# Altium schematic symbol library BoxHeader.SchLib: 163 symbols (part 2 of 2)
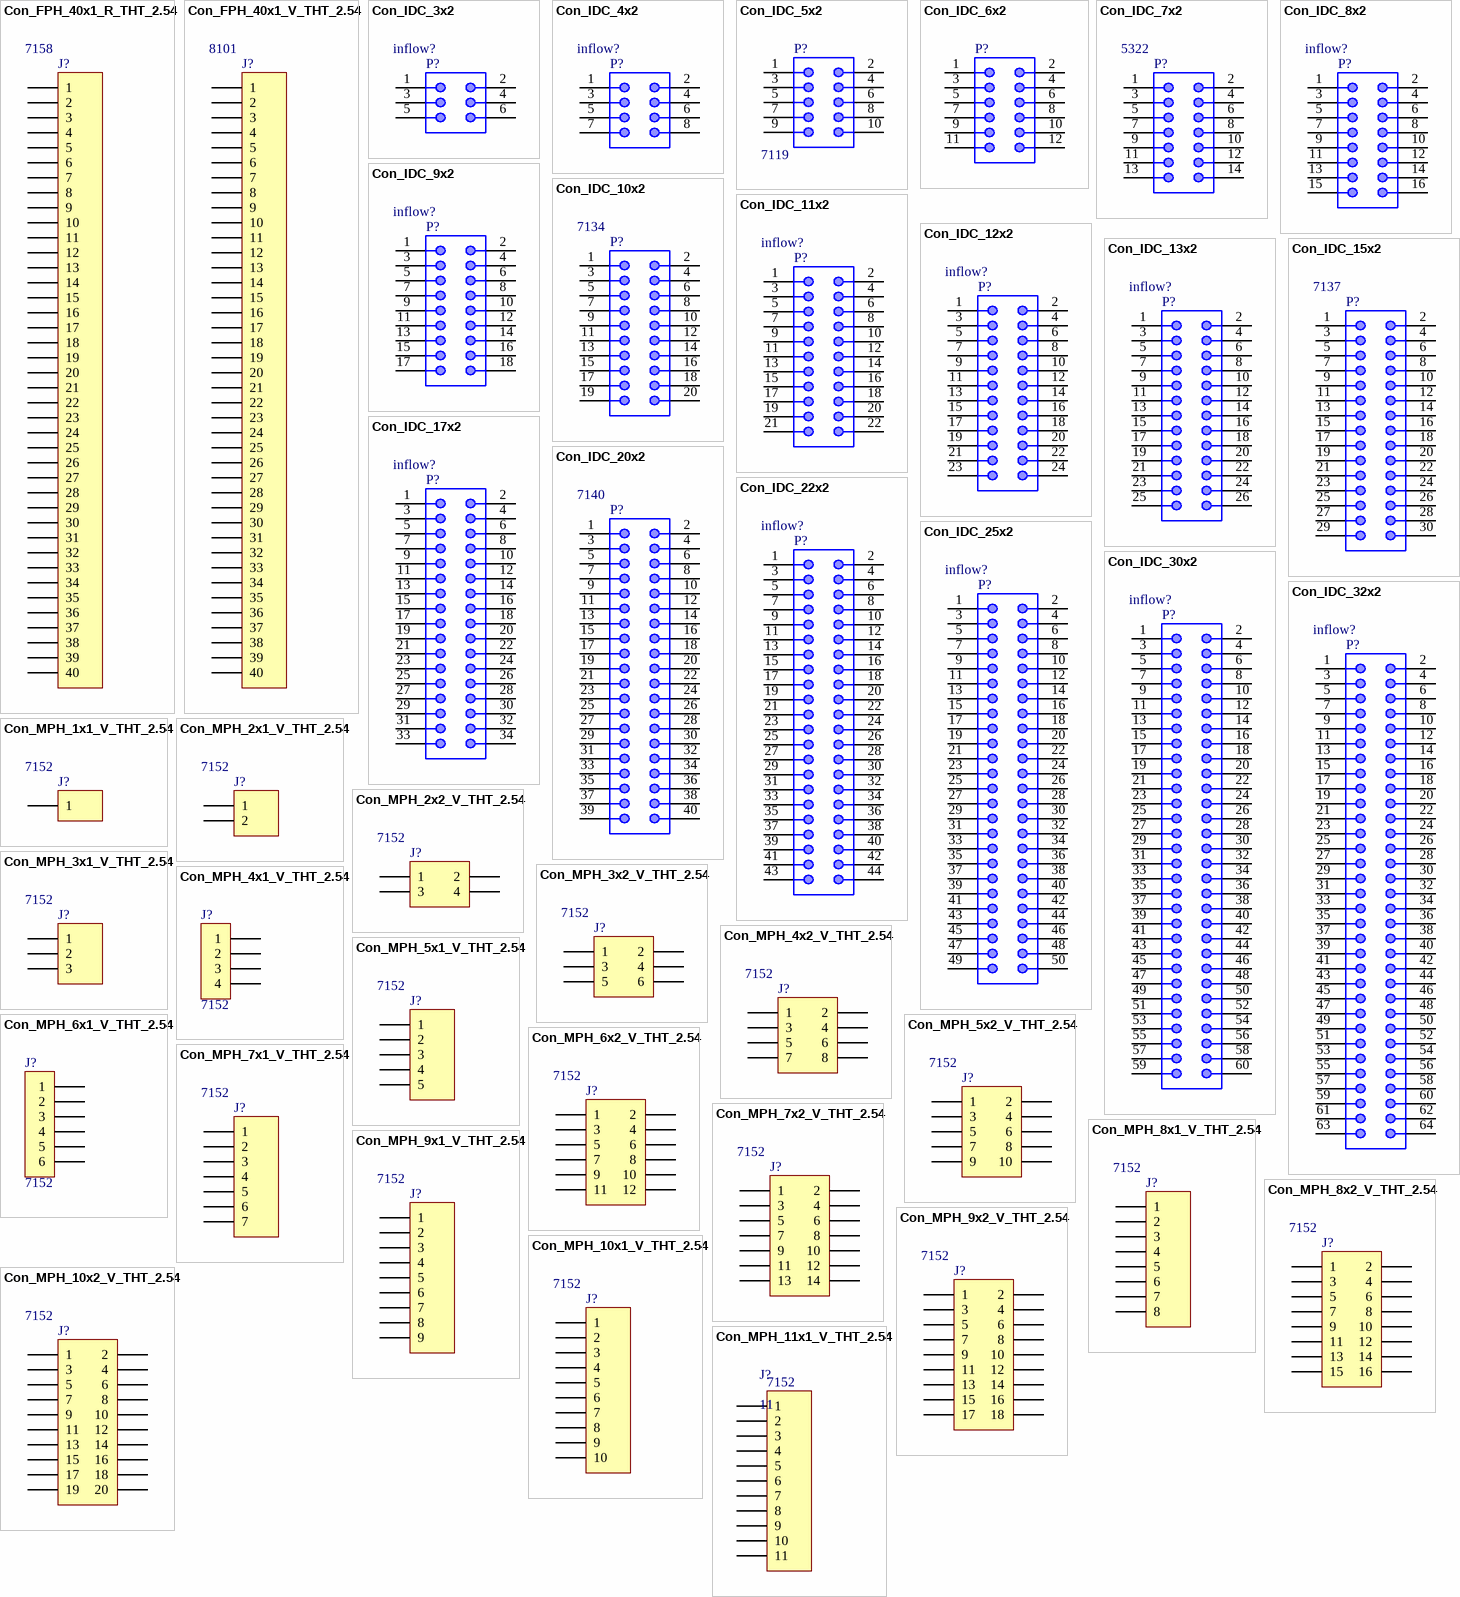
[diagram p6: symbols Con_FPH_40x1_R_THT_2.54 to Con_MPH_11x1_V_THT_2.54]

## Con_IDC_4x2
designator P?, comment Inflow: inflow?  (hidden comment: 4x2)
Male Box Header, 8 pins; Rating: Rating?; Validation: NT; Value: 4x2; Package: Package?; Type: Type?
footprint BOX-HDR-4X2-2.54MM-S (8 pins, straight, gold plating)
footprint BOX-HDR-SMD-4X2-2.54MM-S (8 pins, SMT, straight, gold plating)
footprint BOX-HDR-4X2-2.54MM-RA (8 pins, right angled, gold plating)
pins: 1, 2, 3, 4, 5, 6, 7, 8

## Con_IDC_5x2
designator P?, comment Inflow: 7119  (hidden comment: 5x2)
Male Box Header, 10 pins; Rating: Rating?; Validation: NT; Value: 5x2; Package: Package?; Type: Type?
footprint BOX-HDR-SMD-5X2-2.00mm-S (2.00mm Male SMT Box Header, 10p)
footprint BOX-HDR-5X2-2.54mm-S (10 pins, straight, gold plating)
footprint BOX-HDR-5X2-2.54mm-RA (10 pins, right angled, gold plating)
footprint BOX-HDR-5X2-2.54mm-SL (10 pins, straight, short lever, gold plating)
footprint BOX-HDR-5X2-2.54mm-RA-SL (10 pins, right angeled, short lever, gold plating)
footprint BOX-HDR-5X2-2.54mm-LL (10 pins, straight, long lever, gold plating)
footprint BOX-HDR-5X2-2.54mm-RA-LL (10 pins, right angeled, long lever, gold plating)
footprint BOX-HDR-5X2-2.00mm-RA-L (2.00mm Male Angled Box Header with Lever, 10p)
footprint BOX-HDR-5X2-2.00mm-RA (2.00mm Male Angled Box Header, 10p)
footprint BOX-HDR-5X2-2.00mm-S (2.00mm Male Box Header, 10p)
footprint BOX-HDR-5X2-2.00mm-L (2.00mm Male Box Header with Lever, 10p)
footprint BOX-HDR-SMD-5X2-2.54mm-S (10 pins, SMT, straight, gold plating)
footprint IDC2.54-10PIN - CROSS (Connector; IDC, Low Profile Male Header, Thru-Hole; 10 Position; Vertical; Pitch 2.54 mm; 20.32 x 9.2 x 9.45 mm (LxWxH) DESIGNER : ABBAS BASEREH)
pins: 1, 2, 3, 4, 5, 6, 7, 8, 9, 10

## Con_IDC_6x2
designator P?, comment Value?  (value not drawn)
Male Box Header, 12 pins; Inflow: inflow?; Rating: Rating?; Validation: NT; Value: Value?; Package: Package?; Type: Type?
footprint BOX-HDR-2x6-2.54mm-S (Male Box Header Connector 2X6 Pitch 2.54mm)
footprint BOX-HDR-2x6-2.54mm-RA (Male Box Header Connector 2X6 Pitch 2.54mm)
pins: 1, 2, 3, 4, 5, 6, 7, 8, 9, 10, 11, 12

## Con_IDC_7x2
designator P?, comment Inflow: 5322  (hidden comment: 7x2)
Male Box Header, 14 pins; Rating: Rating?; Validation: NT; Value: 7x2; Package: Package?; Type: Type?
footprint BOX-HDR-SMD-7X2-2.54mm-S (14 pins, SMT, straight, gold plating)
footprint BOX-HDR-7X2-2.54mm-S (14 pins, straight, gold plating)
footprint BOX-HDR-7X2-2.54mm-RA (14 pins, right angled, gold plating)
footprint BOX-HDR-7X2-2.54mm-SL (14 pins, straight, short lever, gold plating)
footprint BOX-HDR-7X2-2.54mm-RA-SL (14 pins, right angeled, short lever, gold plating)
footprint BOX-HDR-7X2-2.54mm-LL (14 pins, straight, long lever, gold plating)
footprint BOX-HDR-7X2-2.54mm-RA-LL (14 pins, right angeled, long lever, gold plating)
footprint BOX-HDR-7X2-2.00mm-S (2.00mm Male Box Header, 14p)
footprint BOX-HDR-7X2-2.00mm-RA (2.00mm Male Angled Box Header, 14p)
footprint BOX-HDR-7X2-2.00mm-L (2.00mm Male Box Header with Lever, 14p)
footprint BOX-HDR-7X2-2.00mm-RA-L (2.00mm Male Angled Box Header with Lever, 14p)
footprint BOX-HDR-SMD-7X2-2.00mm-S (2.00mm Male SMT Box Header, 14p)
footprint IDC2.54_7x2_CROSS
pins: 1 DC0, 2, 3, 4, 5, 6, 7, 8, 9, 10, 11, 12, 13, 14

## Con_IDC_8x2
designator P?, comment Inflow: inflow?  (hidden comment: 8x2)
Male Box Header, 16 pins; Rating: Rating?; Validation: NT; Value: 8x2; Package: Package?; Type: Type?
footprint BOX-HDR-SMD-8X2-2.54mm-S (16 pins, SMT, straight, gold plating)
footprint BOX-HDR-8X2-2.54mm-S (16 pins, straight, gold plating)
footprint BOX-HDR-8X2-2.54mm-RA (16 pins, right angled, gold plating)
footprint BOX-HDR-8X2-2.54mm-SL (16 pins, straight, short lever, gold plating)
footprint BOX-HDR-8X2-2.54mm-RA-SL (16 pins, right angeled, short lever, gold plating)
footprint BOX-HDR-8X2-2.54mm-LL (16 pins, straight, long lever, gold plating)
footprint BOX-HDR-8X2-2.54mm-RA-LL (16 pins, right angeled, long lever, gold plating)
footprint BOX-HDR-8X2-2.00mm-S (2.00mm Male Box Header, 16p)
footprint BOX-HDR-8X2-2.00mm-RA (2.00mm Male Angled Box Header, 16p)
footprint BOX-HDR-SMD-8X2-2.00mm-S (2.00mm Male SMT Box Header, 16p)
pins: 1, 2, 3, 4, 5, 6, 7, 8, 9, 10, 11, 12, 13, 14, 15, 16

## Con_IDC_9x2
designator P?, comment Inflow: inflow?  (hidden comment: 9x2)
Male Box Header, 18 pins; Rating: Rating?; Validation: NT; Value: 9x2; Package: Package?; Type: Type?
footprint BOX-HDR-2x9-2.54mm-S (Male Box Header Connector 2X9 Pitch 2.54mm)
footprint BOX-HDR-2x9-2.54mm-RA (Male Box Header Connector 2X9 Pitch 2.54mm)
pins: 1, 2, 3, 4, 5, 6, 7, 8, 9, 10, 11, 12, 13, 14, 15, 16, 17, 18

## Con_IDC_10x2
designator P?, comment Inflow: 7134  (hidden comment: 10x2)
Male Box Header, 20 pins; Rating: Rating?; Validation: NT; Value: 10x2; Package: Package?; Type: Type?
footprint BOX-HDR-SMD-10X2-2.54mm-S (20 pins, SMT, straight, gold plating)
footprint BOX-HDR-10X2-2.54mm-S (20 pins, straight, gold plating)
footprint BOX-HDR-10X2-2.54mm-RA (20 pins, right angled, gold plating)
footprint BOX-HDR-10X2-2.54mm-SL (20 pins, straight, short lever, gold plating)
footprint BOX-HDR-10X2-2.54mm-RA-SL (20 pins, right angeled, short lever, gold plating)
footprint BOX-HDR-10X2-2.54mm-LL (20 pins, straight, long lever, gold plating)
footprint BOX-HDR-10X2-2.54mm-RA-LL (20 pins, right angeled, long lever, gold plating)
footprint BOX-HDR-10X2-2.00mm-RA (2.00mm Male Angled Box Header, 20p)
footprint BOX-HDR-10X2-2.00mm-L (2.00mm Male Box Header with Lever, 20p)
footprint BOX-HDR-10X2-2.00mm-RA-L (2.00mm Male Angled Box Header with Lever, 20p)
footprint BOX-HDR-10X2-2.00mm-S (2.00mm Male Box Header, 20p)
footprint BOX-HDR-SMD-10X2-2.00mm-S (2.00mm Male SMT Box Header, 20p)
pins: 1, 2, 3, 4, 5, 6, 7, 8, 9, 10, 11, 12, 13, 14, 15, 16, 17, 18, 19, 20

## Con_IDC_11x2
designator P?, comment Inflow: inflow?  (hidden comment: 11x2)
Male Box Header, 22 pins; Rating: Rating?; Validation: NT; Value: 11x2; Package: Package?; Type: Type?
footprint BOX-HDR-2x11-2.54mm-S (Male Box Header Connector 2X11 Pitch 2.54mm)
footprint BOX-HDR-2x11-2.54mm-RA (Male Box Header Connector 2X11 Pitch 2.54mm)
pins: 1, 2, 3, 4, 5, 6, 7, 8, 9, 10, 11, 12, 13, 14, 15, 16, 17, 18, 19, 20, 21, 22

## Con_IDC_12x2
designator P?, comment Inflow: inflow?  (hidden comment: 12x2)
Male Box Header, 24 pins; Rating: Rating?; Validation: NT; Value: 12x2; Package: Package?; Type: Type?
footprint BOX-HDR-SMD-12X2-2.54mm-S (24 pins, SMT, straight, gold plating)
footprint BOX-HDR-12X2-2.54mm-S (24 pins, straight, gold plating)
footprint BOX-HDR-12X2-2.54mm-RA (24 pins, right angled, gold plating)
footprint BOX-HDR-12X2-2.54mm-SL (24 pins, straight, short lever, gold plating)
footprint BOX-HDR-12X2-2.54mm-RA-SL (24 pins, right angeled, short lever, gold plating)
footprint BOX-HDR-12X2-2.54mm-LL (24 pins, straight, long lever, gold plating)
footprint BOX-HDR-12X2-2.54mm-RA-LL (24 pins, right angeled, long lever, gold plating)
footprint BOX-HDR-12X2-2.00mm-S (2.00mm Male Box Header, 24p)
pins: 1, 2, 3, 4, 5, 6, 7, 8, 9, 10, 11, 12, 13, 14, 15, 16, 17, 18, 19, 20, 21, 22, 23, 24

## Con_IDC_13x2
designator P?, comment Inflow: inflow?  (hidden comment: 13x2)
Male Box Header, 26 pins; Rating: Rating?; Validation: NT; Value: 13x2; Package: Package?; Type: Type?
footprint BOX-HDR-SMD-13X2-2.54mm-S (26 pins, SMT, straight, gold plating)
footprint BOX-HDR-13X2-2.54mm-S (26 pins, straight, gold plating)
footprint BOX-HDR-13X2-2.54mm-RA (26 pins, right angled, gold plating)
footprint BOX-HDR-13X2-2.54mm-SL (26 pins, straight, short lever, gold plating)
footprint BOX-HDR-13X2-2.54mm-RA-SL (26 pins, right angeled, short lever, gold plating)
footprint BOX-HDR-13X2-2.54mm-LL (26 pins, straight, long lever, gold plating)
footprint BOX-HDR-13X2-2.54mm-RA-LL (26 pins, right angeled, long lever, gold plating)
footprint BOX-HDR-13X2-2.00mm-S (2.00mm Male Box Header, 26p)
footprint BOX-HDR-13X2-2.00mm-RA (2.00mm Male Angled Box Header, 26p)
footprint BOX-HDR-13X2-2.00mm-L (2.00mm Male Box Header with Lever, 26p)
footprint BOX-HDR-13X2-2.00mm-RA-L (2.00mm Male Angled Box Header with Lever, 26p)
footprint BOX-HDR-SMD-13X2-2.00mm-S (2.00mm Male SMT Box Header, 26p)
pins: 1, 2, 3, 4, 5, 6, 7, 8, 9, 10, 11, 12, 13, 14, 15, 16, 17, 18, 19, 20, 21, 22, 23, 24, 25, 26

## Con_IDC_15x2
designator P?, comment Inflow: 7137  (hidden comment: 15x2)
Male Box Header, 30 pins; Rating: Rating?; Validation: NT; Value: 15x2; Package: Package?; Type: Type?
footprint BOX-HDR-15X2-2.00mm-S (2.00mm Male Box Header, 30p)
footprint BOX-HDR-SMD-15X2-2.00mm-S (2.00mm Male SMT Box Header, 30p)
pins: 1, 2, 3, 4, 5, 6, 7, 8, 9, 10, 11, 12, 13, 14, 15, 16, 17, 18, 19, 20, 21, 22, 23, 24, 25, 26, 27, 28, 29, 30

## Con_IDC_17x2
designator P?, comment Inflow: inflow?  (hidden comment: 17x2)
Male Box Header, 34 pins; Rating: Rating?; Validation: NT; Value: 17x2; Package: Package?; Type: Type?
footprint BOX-HDR-SMD-17X2-2.54mm-S (34 pins, SMT, straight, gold plating)
footprint BOX-HDR-17X2-2.54mm-S (34 pins, straight, gold plating)
footprint BOX-HDR-17X2-2.54mm-RA (34 pins, right angled, gold plating)
footprint BOX-HDR-17X2-2.54mm-SL (34 pins, straight, short lever, gold plating)
footprint BOX-HDR-17X2-2.54mm-RA-SL (34 pins, right angeled, short lever, gold plating)
footprint BOX-HDR-17X2-2.54mm-LL (34 pins, straight, long lever, gold plating)
footprint BOX-HDR-17X2-2.54mm-RA-LL (34 pins, right angeled, long lever, gold plating)
footprint BOX-HDR-17X2-2.00mm-S (2.00mm Male Box Header, 34p)
footprint BOX-HDR-17X2-2.00mm-RA (2.00mm Male Angled Box Header, 34p)
footprint BOX-HDR-17X2-2.00mm-L (2.00mm Male Box Header with Lever, 34p)
footprint BOX-HDR-17X2-2.00mm-RA-L (2.00mm Male Angled Box Header with Lever, 34p)
footprint BOX-HDR-SMD-17X2-2.00mm-S (2.00mm Male SMT Box Header, 34p)
pins: 1, 2, 3, 4, 5, 6, 7, 8, 9, 10, 11, 12, 13, 14, 15, 16, 17, 18, 19, 20, 21, 22, 23, 24, 25, 26, 27, 28, 29, 30, 31, 32, 33, 34

## Con_IDC_20x2
designator P?, comment Inflow: 7140  (hidden comment: 20x2)
Male Box Header, 40 pins; Rating: Rating?; Validation: Valid; Value: 20x2; Package: Package?; Type: Type?
footprint BOX-HDR-SMD-20X2-2.00mm-S (2.00mm Male SMT Box Header, 40p)
footprint BOX-HDR-20X2-2.54mm-S (40 pins, straight, gold plating)
footprint BOX-HDR-20X2-2.54mm-RA (40 pins, right angled, gold plating)
footprint BOX-HDR-20X2-2.54mm-SL (40 pins, straight, short lever, gold plating)
footprint BOX-HDR-20X2-2.54mm-RA-SL (40 pins, right angeled, short lever, gold plating)
footprint BOX-HDR-20X2-2.54mm-LL (40 pins, straight, long lever, gold plating)
footprint BOX-HDR-20X2-2.54mm-RA-LL (40 pins, right angeled, long lever, gold plating)
footprint BOX-HDR-20X2-2.00mm-S (2.00mm Male Box Header, 40p)
footprint BOX-HDR-20X2-2.00mm-RA (2.00mm Male Angled Box Header, 40p)
footprint BOX-HDR-20X2-2.00mm-L (2.00mm Male Box Header with Lever, 40p)
footprint BOX-HDR-20X2-2.00mm-RA-L (2.00mm Male Angled Box Header with Lever, 40p)
footprint BOX-HDR-SMD-20X2-2.54mm-S (40 pins, SMT, straight, gold plating)
pins: 1, 2, 3, 4, 5, 6, 7, 8, 9, 10, 11, 12, 13, 14, 15, 16, 17, 18, 19, 20, 21, 22, 23, 24, 25, 26, 27, 28, 29, 30, 31, 32, 33, 34, 35, 36, 37, 38, 39, 40

## Con_IDC_22x2
designator P?, comment Inflow: inflow?  (hidden comment: 22x2)
Male Box Header, 44 pins; Rating: Rating?; Validation: NT; Value: 22x2; Package: Package?; Type: Type?
footprint BOX-HDR-22X2-2.00mm-S (2.00mm Male Box Header, 44p)
footprint BOX-HDR-22X2-2.00mm-RA (2.00mm Male Angled Box Header, 44p)
footprint BOX-HDR-22X2-2.00mm-L (2.00mm Male Box Header with Lever, 44p)
footprint BOX-HDR-22X2-2.00mm-RA-L (2.00mm Male Angled Box Header with Lever, 44p)
footprint BOX-HDR-SMD-22X2-2.00mm-S (2.00mm Male SMT Box Header, 44p)
pins: 1, 2, 3, 4, 5, 6, 7, 8, 9, 10, 11, 12, 13, 14, 15, 16, 17, 18, 19, 20, 21, 22, 23, 24, 25, 26, 27, 28, 29, 30, 31, 32, 33, 34, 35, 36, 37, 38, 39, 40, 41, 42, 43, 44

## Con_IDC_25x2
designator P?, comment Inflow: inflow?  (hidden comment: 25x2)
Male Box Header, 50 pins; Rating: Rating?; Validation: NT; Value: 25x2; Package: Package?; Type: Type?
footprint BOX-HDR-25X2-2.54mm-S (50 pins, straight, gold plating)
footprint BOX-HDR-25X2-2.54mm-RA (50 pins, right angled, gold plating)
footprint BOX-HDR-25X2-2.54mm-SL (50 pins, straight, short lever, gold plating)
footprint BOX-HDR-25X2-2.54mm-RA-SL (50 pins, right angeled, short lever, gold plating)
footprint BOX-HDR-25X2-2.54mm-LL (50 pins, straight, long lever, gold plating)
footprint BOX-HDR-25X2-2.54mm-RA-LL (50 pins, right angeled, long lever, gold plating)
footprint BOX-HDR-25X2-2.00mm-S (2.00mm Male Box Header, 50p)
footprint BOX-HDR-25X2-2.00mm-RA (2.00mm Male Angled Box Header, 50p)
footprint BOX-HDR-25X2-2.00mm-L (2.00mm Male Box Header with Lever, 50p)
footprint BOX-HDR-25X2-2.00mm-RA-L (2.00mm Male Angled Box Header with Lever, 50p)
footprint BOX-HDR-SMD-25X2-2.00mm-S (2.00mm Male SMT Box Header, 50p)
pins: 1, 2, 3, 4, 5, 6, 7, 8, 9, 10, 11, 12, 13, 14, 15, 16, 17, 18, 19, 20, 21, 22, 23, 24, 25, 26, 27, 28, 29, 30, 31, 32, 33, 34, 35, 36, 37, 38, 39, 40, 41, 42, 43, 44, 45, 46, 47, 48, 49, 50

## Con_IDC_30x2
designator P?, comment Inflow: inflow?  (hidden comment: 30x2)
Male Box Header, 60 pins; Rating: Rating?; Validation: NT; Value: 30x2; Package: Package?; Type: Type?
footprint BOX-HDR-30X2-2.54mm-S (60 pins, straight, gold plating)
footprint BOX-HDR-30X2-2.54mm-RA (60 pins, right angled, gold plating)
footprint BOX-HDR-30X2-2.54mm-SL (60 pins, straight, short lever, gold plating)
footprint BOX-HDR-30X2-2.54mm-RA-SL (60 pins, right angeled, short lever, gold plating)
footprint BOX-HDR-30X2-2.54mm-LL (60 pins, straight, long lever, gold plating)
footprint BOX-HDR-30X2-2.54mm-RA-LL (60 pins, right angeled, long lever, gold plating)
pins: 1, 2, 3, 4, 5, 6, 7, 8, 9, 10, 11, 12, 13, 14, 15, 16, 17, 18, 19, 20, 21, 22, 23, 24, 25, 26, 27, 28, 29, 30, 31, 32, 33, 34, 35, 36, 37, 38, 39, 40, 41, 42, 43, 44, 45, 46, 47, 48, 49, 50, 51, 52, 53, 54, 55, 56, 57, 58, 59, 60

## Con_IDC_32x2
designator P?, comment Inflow: inflow?  (hidden comment: 32x2)
Male Box Header, 64 pins; Rating: Rating?; Validation: NT; Value: 32x2; Package: Package?; Type: Type?
footprint BOX-HDR-32X2-2.54mm-LL (64 pins, straight, long lever, gold plating)
footprint BOX-HDR-32X2-2.54mm-S (64 pins, straight, gold plating)
pins: 1, 2, 3, 4, 5, 6, 7, 8, 9, 10, 11, 12, 13, 14, 15, 16, 17, 18, 19, 20, 21, 22, 23, 24, 25, 26, 27, 28, 29, 30, 31, 32, 33, 34, 35, 36, 37, 38, 39, 40, 41, 42, 43, 44, 45, 46, 47, 48, 49, 50, 51, 52, 53, 54, 55, 56, 57, 58, 59, 60, 61, 62, 63, 64

## Con_MPH_1x1_V_THT_2.54
designator J?, comment Inflow: 7152  (hidden comment: 1)
Header, single row, 1 pin; Rating: Rating?; Validation: NT; Value: 1; Package: Package?; Type: Type?
footprint HDR_THT_1M_2.54mm (Pin Header, pitch 2.54 mm, THT, Vertical, single row, 1p)
pins: 1

## Con_MPH_2x1_V_THT_2.54
designator J?, comment Inflow: 7152  (hidden comment: 2)
Header, single row, 2 pin; Rating: Rating?; Validation: NT; Value: 2; Package: Package?; Type: Type?
footprint HDR_THT_2M_2.54mm (Pin Header, pitch 2.54 mm, THT, Vertical, single row, 2p)
footprint HDR_THT_2M_2mm (Pin Header, pitch 2.00 mm, THT, Vertical, single row, 2p)
footprint HDR_THT_2M_2.54mm_RA (Pin Header, pitch 2.54 mm, THT, Angled, single row, 2p)
pins: 1, 2

## Con_MPH_2x2_V_THT_2.54
designator J?, comment Inflow: 7152  (hidden comment: 2x2)
Header, dual row, 4 pin; Rating: Rating?; Validation: NT; Value: 2x2; Package: Package?; Type: Type?
footprint HDR_THT_2x2M_2.54mm (Pin Header, pitch 2.54 mm, THT, Vertical, dual row, 4p)
footprint HDR_THT_2x2M_2mm (Pin Header, pitch 2.00 mm, THT, Vertical, dual row, 4p)
footprint HDR_THT_2x2M_1.27mm (Pin Header, pitch 1.27 mm, THT, Vertical, dual row, 4p)
footprint HDR_SMD_2x2M_2.54mm (Pin Header, pitch 2.54 mm, SMD, Vertical, dual row, 4p)
footprint HDR_SMD_2x2M_2mm (Pin Header, pitch 2.00 mm, SMD, Vertical, dual row, 4p)
footprint HDR_SMD_2x2M_1.27mm (Pin Header, pitch 1.27 mm, SMD, Vertical, dual row, 4p)
footprint HDR_THT_2x2M_2.54mm_RA (Pin Header, pitch 2.54 mm, THT, Angled, dual row, 4p)
pins: 1, 2, 3, 4

## Con_MPH_3x1_V_THT_2.54
designator J?, comment Inflow: 7152  (hidden comment: 3)
Header, single row, 3 pin; Rating: Rating?; Validation: NT; Value: 3; Package: Package?; Type: Type?
footprint HDR_THT_3M_2.54mm (Pin Header, pitch 2.54 mm, THT, Vertical, single row, 3p)
footprint HDR_THT_3M_2mm (Pin Header, pitch 2.00 mm, THT, Vertical, single row, 3p)
footprint HDR_THT_3M_2.54mm_RA (Pin Header, pitch 2.54 mm, THT, Angled, single row, 3p)
pins: 1, 2, 3

## Con_MPH_3x2_V_THT_2.54
designator J?, comment Inflow: 7152  (hidden comment: 3x2)
Header, dual row, 6 pin; Rating: Rating?; Validation: NT; Value: 3x2; Package: Package?; Type: Type?
footprint HDR_THT_3x2M_2.54mm (Pin Header, pitch 2.54 mm, THT, Vertical, dual row, 6p)
footprint HDR_THT_3x2M_2mm (Pin Header, pitch 2.00 mm, THT, Vertical, dual row, 6p)
footprint HDR_SMD_3x2M_2.54mm (Pin Header, pitch 2.54 mm, SMD, Vertical, dual row, 6p)
footprint HDR_SMD_3x2M_2mm (Pin Header, pitch 2.00 mm, SMD, Vertical, dual row, 6p)
footprint HDR_SMD_3x2M_1.27mm (Pin Header, pitch 1.27 mm, SMD, Vertical, dual row, 6p)
footprint HDR_SMD_3x2M_2.54mm_RA (Pin Header, pitch 2.54 mm, SMD, Angled, dual row, 6p)
footprint HDR_THT_3x2M_2.54mm_RA (Pin Header, pitch 2.54 mm, THT, Angled, dual row, 6p)
pins: 1, 2, 3, 4, 5, 6

## Con_MPH_4x1_V_THT_2.54
designator J?, comment Inflow: 7152  (hidden comment: 4b)
Header, single row, 4 pin; Rating: 4x1; Validation: NT; Type: Vertical; Package: Dip; Value: 4b
footprint HDR_THT_4M_2.54mm (Pin Header, pitch 2.54 mm, THT, Vertical, single row, 4p)
footprint HDR_THT_4M_2mm (Pin Header, pitch 2.00 mm, THT, Vertical, single row, 4p)
footprint HDR_SMD_4M_2.54mm_ (Pin Header, pitch 2.54 mm, SMD, Vertical, single row, 4p)
footprint HDR_SMD_4M_2.54mm (Pin Header, pitch 2.54 mm, SMD, Vertical, single row, 4p)
footprint HDR_THT_4M_2.54mm_RA (Pin Header, pitch 2.54 mm, THT, Angled, single row, 4p)
pins: 1, 2, 3, 4

## Con_MPH_4x2_V_THT_2.54
designator J?, comment Inflow: 7152  (hidden comment: 4x2)
Header, dual row, 8 pin; Rating: Rating?; Validation: NT; Value: 4x2; Package: Package?; Type: Type?
footprint HDR_THT_4x2M_2.54mm (Pin Header, pitch 2.54 mm, THT, Vertical, dual row, 8p)
footprint HDR_THT_4x2M_2mm (Pin Header, pitch 2.00 mm, THT, Vertical, dual row, 8p)
footprint HDR_THT_4x2M_1.27mm (Pin Header, pitch 1.27 mm, THT, Vertical, dual row, 8p)
footprint HDR_SMD_4x2M_2.54mm (Pin Header, pitch 2.54 mm, SMD, Vertical, dual row, 8p)
footprint HDR_SMD_4x2M_2mm (Pin Header, pitch 2.00 mm, SMD, Vertical, dual row, 8p)
footprint HDR_SMD_4x2M_1.27mm (Pin Header, pitch 1.27 mm, SMD, Vertical, dual row, 8p)
footprint HDR_SMD_4x2M_2.54mm_RA (Pin Header, pitch 2.54 mm, SMD, Angled, dual row, 8p)
footprint HDR_THT_4x2M_2.54mm_RA (Pin Header, pitch 2.54 mm, THT, Angled, dual row, 8p)
pins: 1, 2, 3, 4, 5, 6, 7, 8

## Con_MPH_5x1_V_THT_2.54
designator J?, comment Inflow: 7152  (hidden comment: 5)
Header, single row, 5 pin; Rating: Rating?; Validation: NT; Value: 5; Package: Package?; Type: Type?
footprint HDR_THT_5M_2.54mm (Pin Header, pitch 2.54 mm, THT, Vertical, single row, 5p)
footprint HDR_THT_5M_2.54mm_RA (Pin Header, pitch 2.54 mm, THT, Angled, single row, 5p)
pins: 1, 2, 3, 4, 5

## Con_MPH_5x2_V_THT_2.54
designator J?, comment Inflow: 7152  (hidden comment: 5x2)
Header, dual row, 10 pin; Rating: Rating?; Validation: NT; Value: 5x2; Package: Package?; Type: Type?
footprint HDR_THT_5x2M_2.54mm (Pin Header, pitch 2.54 mm, THT, Vertical, dual row, 10p)
footprint HDR_THT_5x2M_2mm (Pin Header, pitch 2.00 mm, THT, Vertical, dual row, 10p)
footprint HDR_THT_5x2M_1.27mm (Pin Header, pitch 1.27 mm, THT, Vertical, dual row, 10p)
footprint HDR_SMD_5x2M_2.54mm (Pin Header, pitch 2.54 mm, SMD, Vertical, dual row, 10p)
footprint HDR_SMD_5x2M_2mm (Pin Header, pitch 2.00 mm, SMD, Vertical, dual row, 10p)
footprint HDR_SMD_5x2M_1.27mm (Pin Header, pitch 1.27 mm, SMD, Vertical, dual row, 10p)
footprint HDR_SMD_5x2M_2.54mm_RA (Pin Header, pitch 2.54 mm, SMD, Angled, dual row, 10p)
footprint HDR_THT_5x2M_2.54mm_RA (Pin Header, pitch 2.54 mm, THT, Angled, dual row, 10p)
pins: 1, 2, 3, 4, 5, 6, 7, 8, 9, 10

## Con_MPH_6x1_V_THT_2.54
designator J?, comment Inflow: 7152  (hidden comment: 6b)
Header, single row, 6 pin; Rating: 6x1; Validation: NT; Value: 6b; Package: Dip; Type: Vertical
footprint HDR_THT_6M_2.54mm (Pin Header, pitch 2.54 mm, THT, Vertical, single row, 6p)
footprint HDR_THT_6M_2mm (Pin Header, pitch 2.00 mm, THT, Vertical, single row, 6p)
footprint HDR_SMD_6M_2.54mm_ (Pin Header, pitch 2.54 mm, SMD, Vertical, single row, 6p)
footprint HDR_SMD_6M_2.54mm (Pin Header, pitch 2.54 mm, SMD, Vertical, single row, 6p)
footprint HDR_THT_6M_2.54mm_RA (Pin Header, pitch 2.54 mm, THT, Angled, single row, 6p)
pins: 1, 2, 3, 4, 5, 6

## Con_MPH_6x2_V_THT_2.54
designator J?, comment Inflow: 7152  (hidden comment: 6x2)
Header, dual row, 12 pin; Rating: Rating?; Validation: NT; Value: 6x2; Package: Package?; Type: Type?
footprint HDR_THT_6x2M_2.54mm (Pin Header, pitch 2.54 mm, THT, Vertical, dual row, 12p)
footprint HDR_SMD_6x2M_2.54mm (Pin Header, pitch 2.54 mm, SMD, Vertical, dual row, 12p)
footprint HDR_SMD_6x2M_2.54mm_RA (Pin Header, pitch 2.54 mm, SMD, Angled, dual row, 12p)
footprint HDR_THT_6x2M_2.54mm_RA (Pin Header, pitch 2.54 mm, THT, Angled, dual row, 12p)
pins: 1, 2, 3, 4, 5, 6, 7, 8, 9, 10, 11, 12

## Con_MPH_7x1_V_THT_2.54
designator J?, comment Inflow: 7152  (hidden comment: 7)
Header, single row, 7 pin; Rating: Rating?; Validation: NT; Value: 7; Package: Package?; Type: Type?
footprint HDR_THT_7M_2.54mm (Pin Header, pitch 2.54 mm, THT, Vertical, single row, 7p)
footprint HDR_THT_7M_2.54mm_RA (Pin Header, pitch 2.54 mm, THT, Angled, single row, 7p)
pins: 1, 2, 3, 4, 5, 6, 7

## Con_MPH_7x2_V_THT_2.54
designator J?, comment Inflow: 7152  (hidden comment: 7x2)
Header, dual row, 14 pin; Rating: Rating?; Validation: NT; Value: 7x2; Package: Package?; Type: Type?
footprint HDR_THT_7x2M_2.54mm (Pin Header, pitch 2.54 mm, THT, Vertical, dual row, 14p)
footprint HDR_THT_7x2M_1.27mm (Pin Header, pitch 1.27 mm, THT, Vertical, dual row, 14p)
footprint HDR_SMD_7x2M_2.54mm (Pin Header, pitch 2.54 mm, SMD, Vertical, dual row, 14p)
footprint HDR_SMD_7x2M_2mm (Pin Header, pitch 2.00 mm, SMD, Vertical, dual row, 14p)
footprint HDR_SMD_7x2M_1.27mm (Pin Header, pitch 1.27 mm, SMD, Vertical, dual row, 14p)
footprint HDR_SMD_7x2M_2.54mm_RA (Pin Header, pitch 2.54 mm, SMD, Angled, dual row, 14p)
footprint HDR_THT_7x2M_2.54mm_RA (Pin Header, pitch 2.54 mm, THT, Angled, dual row, 14p)
pins: 1, 2, 3, 4, 5, 6, 7, 8, 9, 10, 11, 12, 13, 14

## Con_MPH_8x1_V_THT_2.54
designator J?, comment Inflow: 7152  (hidden comment: 8)
Header, single row, 8 pin; Rating: Rating?; Validation: NT; Value: 8; Package: Package?; Type: Type?
footprint HDR_THT_8M_2.54mm (Pin Header, pitch 2.54 mm, THT, Vertical, single row, 8p)
footprint HDR_THT_8M_2mm (Pin Header, pitch 2.00 mm, THT, Vertical, single row, 8p)
footprint HDR_THT_8M_2.54mm_RA (Pin Header, pitch 2.54 mm, THT, Angled, single row, 8p)
pins: 1, 2, 3, 4, 5, 6, 7, 8

## Con_MPH_8x2_V_THT_2.54
designator J?, comment Inflow: 7152  (hidden comment: 8x2)
Header, dual row, 16 pin; Rating: Rating?; Validation: NT; Value: 8x2; Package: Package?; Type: Type?
footprint HDR_THT_8x2M_2.54mm (Pin Header, pitch 2.54 mm, THT, Vertical, dual row, 16p)
footprint HDR_THT_8x2M_2mm (2.00 mm THT Dual Pin Header, 16p)
footprint HDR_THT_8x2M_1.27mm (Pin Header, pitch 1.27 mm, THT, Vertical, dual row, 16p)
footprint HDR_SMD_8x2M_2.54mm (Pin Header, pitch 2.54 mm, SMD, Vertical, dual row, 16p)
footprint HDR_SMD_8x2M_2mm (Pin Header, pitch 2.00 mm, SMD, Vertical, dual row, 16p)
footprint HDR_SMD_8x2M_1.27mm (Pin Header, pitch 1.27 mm, SMD, Vertical, dual row, 16p)
footprint HDR_SMD_8x2M_2.54mm_RA (Pin Header, pitch 2.54 mm, SMD, Angled, dual row, 16p)
footprint HDR_THT_8x2M_2.54mm_RA (Pin Header, pitch 2.54 mm, THT, Angled, dual row, 16p)
pins: 1, 2, 3, 4, 5, 6, 7, 8, 9, 10, 11, 12, 13, 14, 15, 16

## Con_MPH_9x1_V_THT_2.54
designator J?, comment Inflow: 7152  (hidden comment: 9)
Header, single row, 9 pin; Rating: Rating?; Validation: NT; Value: 9; Package: Package?; Type: Type?
footprint HDR_THT_9M_2.54mm (Pin Header, pitch 2.54 mm, THT, Vertical, single row, 9p)
footprint HDR_THT_9M_2.54mm_RA (Pin Header, pitch 2.54 mm, THT, Angled, single row, 9p)
pins: 1, 2, 3, 4, 5, 6, 7, 8, 9

## Con_MPH_9x2_V_THT_2.54
designator J?, comment Inflow: 7152  (hidden comment: 9x2)
Header, dual row, 18 pin; Rating: Rating?; Validation: NT; Value: 9x2; Package: Package?; Type: Type?
footprint HDR_THT_9x2M_2.54mm (Pin Header, pitch 2.54 mm, THT, Vertical, dual row, 18p)
footprint HDR_SMD_9x2M_2.54mm (Pin Header, pitch 2.54 mm, SMD, Vertical, dual row, 18p)
footprint HDR_THT_9x2M_2.54mm_RA (Pin Header, pitch 2.54 mm, THT, Angled, dual row, 18p)
pins: 1, 2, 3, 4, 5, 6, 7, 8, 9, 10, 11, 12, 13, 14, 15, 16, 17, 18

## Con_MPH_10x1_V_THT_2.54
designator J?, comment Inflow: 7152  (hidden comment: 10)
Header, single row, 10 pin; Rating: Rating?; Validation: NT; Value: 10; Package: Package?; Type: Type?
footprint HDR_THT_10M_2.54mm (Pin Header, pitch 2.54 mm, THT, Vertical, single row, 10p)
footprint HDR_THT_10M_2mm (Pin Header, pitch 2.00 mm, THT, Vertical, single row, 10p)
footprint HDR_SMD_10M_2.54mm_ (Pin Header, pitch 2.54 mm, SMD, Vertical, single row, 10p)
footprint HDR_SMD_10M_2.54mm (Pin Header, pitch 2.54 mm, SMD, Vertical, single row, 10p)
footprint HDR_THT_10M_2.54mm_RA (Pin Header, pitch 2.54 mm, THT, Angled, single row, 10p)
pins: 1, 2, 3, 4, 5, 6, 7, 8, 9, 10

## Con_MPH_10x2_V_THT_2.54
designator J?, comment Inflow: 7152  (hidden comment: 10x2)
Header, dual row, 20 pin; Rating: Rating?; Validation: NT; Value: 10x2; Package: Package?; Type: Type?
footprint HDR_THT_10x2M_2.54mm (Pin Header, pitch 2.54 mm, THT, Vertical, dual row, 20p)
footprint HDR_THT_10x2M_2mm (2.00 mm THT Dual Pin Header, 20p)
footprint HDR_THT_10x2M_1.27mm (Pin Header, pitch 1.27 mm, THT, Vertical, dual row, 20p)
footprint HDR_SMD_10x2M_2.54mm (Pin Header, pitch 2.54 mm, SMD, Vertical, dual row, 20p)
footprint HDR_SMD_10x2M_2mm (Pin Header, pitch 2.00 mm, SMD, Vertical, dual row, 20p)
footprint HDR_SMD_10x2M_1.27mm (Pin Header, pitch 1.27 mm, SMD, Vertical, dual row, 20p)
footprint HDR_SMD_10x2M_2.54mm_RA (Pin Header, pitch 2.54 mm, SMD, Angled, dual row, 20p)
footprint HDR_THT_10x2M_2.54mm_RA (Pin Header, pitch 2.54 mm, THT, Angled, dual row, 20p)
pins: 1, 2, 3, 4, 5, 6, 7, 8, 9, 10, 11, 12, 13, 14, 15, 16, 17, 18, 19, 20

## Con_MPH_11x1_V_THT_2.54
designator J?, comment 11  Inflow: 7152
Header, single row, 11 pin; Rating: Rating?; Validation: NT; Value: 11; Package: Package?; Type: Type?
footprint HDR_THT_11M_2.54mm (in Header, pitch 2.54 mm, THT, Vertical, single row, 11p)
pins: 1, 2, 3, 4, 5, 6, 7, 8, 9, 10, 11

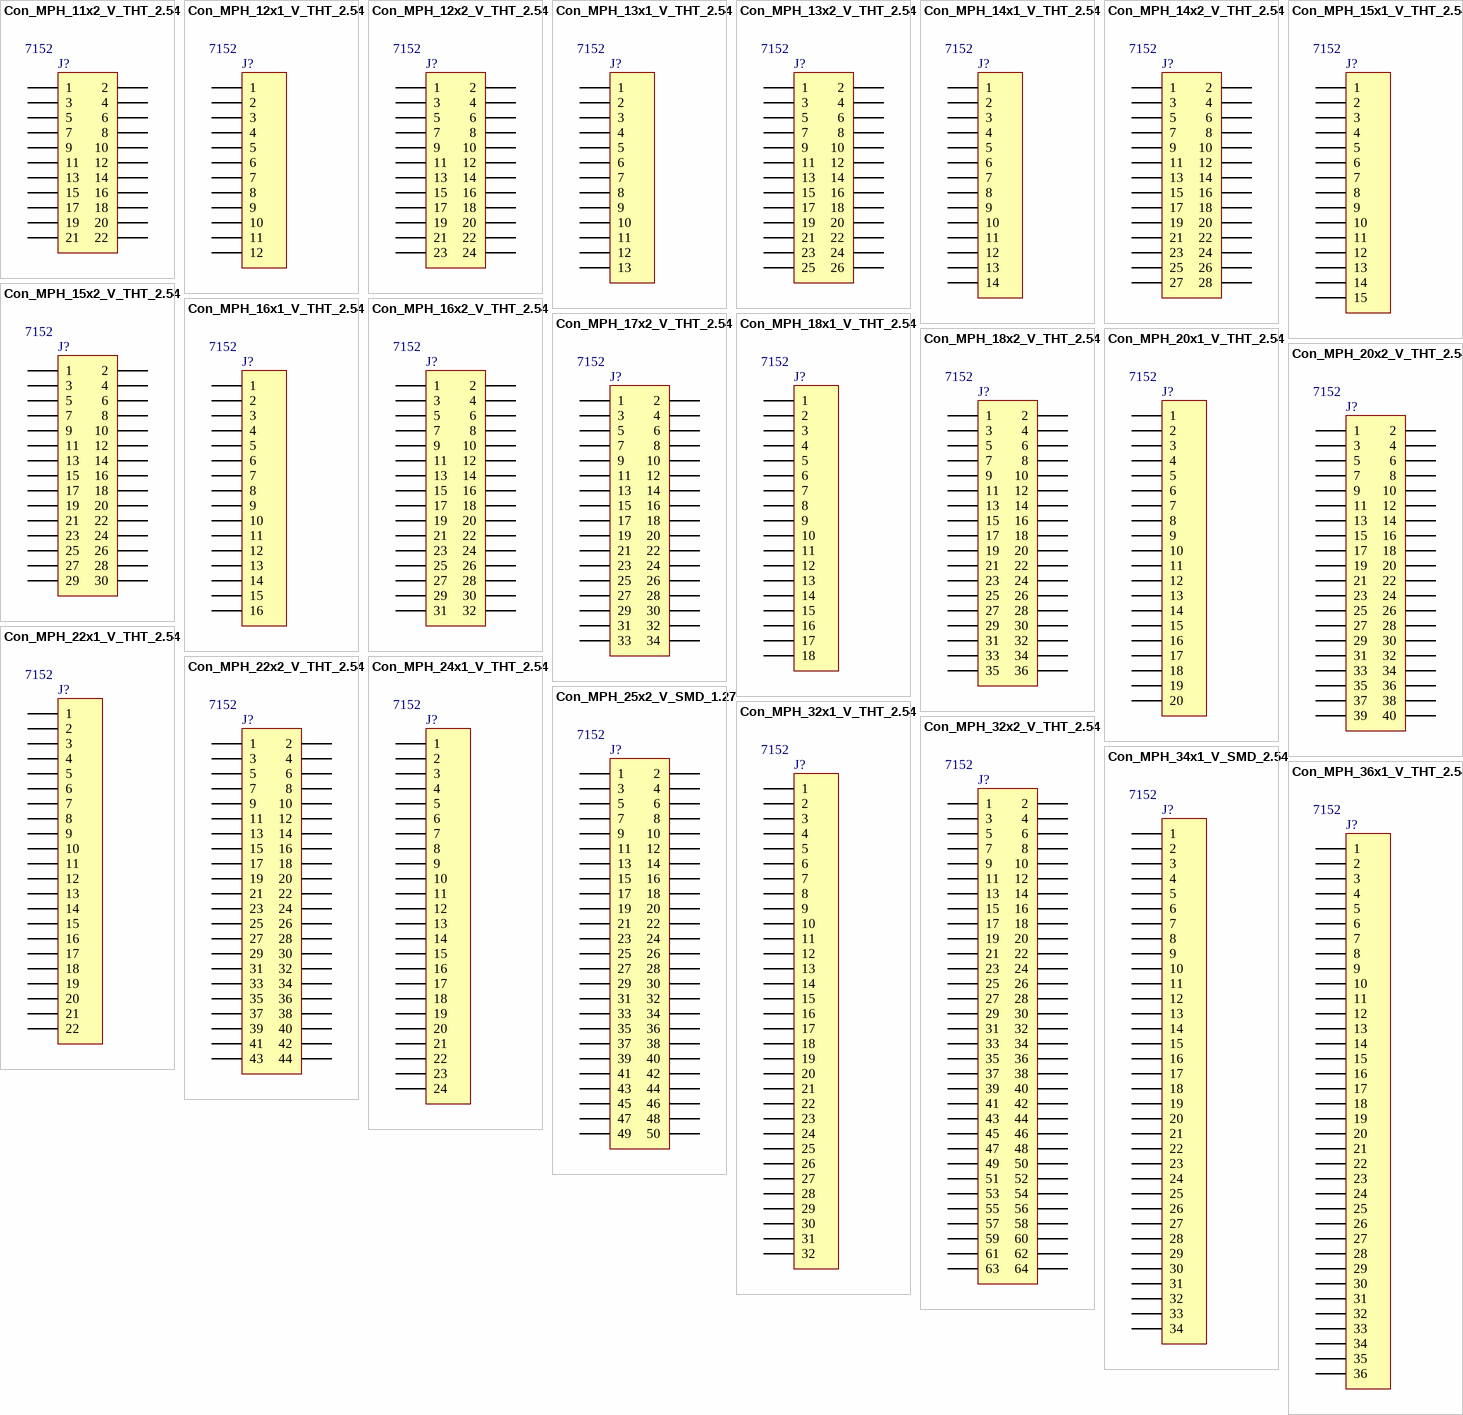
[diagram p4: symbols Con_MPH_11x2_V_THT_2.54 to Con_MPH_36x1_V_THT_2.54]

## Con_MPH_11x2_V_THT_2.54
designator J?, comment Inflow: 7152  (hidden comment: 11x2)
Header, dual row, 22 pin; Rating: Rating?; Validation: NT; Value: 11x2; Package: Package?; Type: Type?
footprint HDR_THT_11x2M_2.54mm (Pin Header, pitch 2.54 mm, THT, Vertical, dual row, 22p)
footprint HDR_SMD_11x2M_2.54mm (Pin Header, pitch 2.54 mm, SMD, Vertical, dual row, 22p)
footprint HDR_SMD_11x2M_2.54mm_RA (Pin Header, pitch 2.54 mm, SMD, Angled, dual row, 22p)
footprint HDR_THT_11x2M_2.54mm_RA (Pin Header, pitch 2.54 mm, THT, Angled, dual row, 22p)
pins: 1, 2, 3, 4, 5, 6, 7, 8, 9, 10, 11, 12, 13, 14, 15, 16, 17, 18, 19, 20, 21, 22

## Con_MPH_12x1_V_THT_2.54
designator J?, comment Inflow: 7152  (hidden comment: 12)
Header, single row, 12 pin; Rating: Rating?; Validation: NT; Value: 12; Package: Package?; Type: Type?
footprint HDR_THT_12M_2.54mm (Pin Header, pitch 2.54 mm, THT, Vertical, single row, 12p)
footprint HDR_THT_12M_2.54mm_RA (Pin Header, pitch 2.54 mm, THT, Angled, single row, 12p)
pins: 1, 2, 3, 4, 5, 6, 7, 8, 9, 10, 11, 12

## Con_MPH_12x2_V_THT_2.54
designator J?, comment Inflow: 7152  (hidden comment: 12x2)
Header, dual row, 24 pin; Rating: Rating?; Validation: NT; Value: 12x2; Package: Package?; Type: Type?
footprint HDR_THT_12x2M_2.54mm (Pin Header, pitch 2.54 mm, THT, Vertical, dual row, 24p)
footprint HDR_THT_12x2M_2mm (2.00 mm THT Dual Pin Header, 24p)
footprint HDR_SMD_12x2M_2.54mm (Pin Header, pitch 2.54 mm, SMD, Vertical, dual row, 24p)
footprint HDR_SMD_12x2M_2mm (Pin Header, pitch 2.00 mm, SMD, Vertical, dual row, 24p)
footprint HDR_SMD_12x2M_2.54mm_RA (Pin Header, pitch 2.54 mm, SMD, Angled, dual row, 24p)
footprint HDR_THT_12x2M_2.54mm_RA (Pin Header, pitch 2.54 mm, THT, Angled, dual row, 24p)
pins: 1, 2, 3, 4, 5, 6, 7, 8, 9, 10, 11, 12, 13, 14, 15, 16, 17, 18, 19, 20, 21, 22, 23, 24

## Con_MPH_13x1_V_THT_2.54
designator J?, comment Inflow: 7152  (hidden comment: 13)
Header, single row, 13 pin; Rating: Rating?; Validation: NT; Value: 13; Package: Package?; Type: Type?
footprint HDR_THT_13M_2.54mm (Pin Header, pitch 2.54 mm, THT, Vertical, single row, 13p)
pins: 1, 2, 3, 4, 5, 6, 7, 8, 9, 10, 11, 12, 13

## Con_MPH_13x2_V_THT_2.54
designator J?, comment Inflow: 7152  (hidden comment: 13x2)
Header, dual row, 26 pin; Rating: Rating?; Validation: NT; Value: 13x2; Package: Package?; Type: Type?
footprint HDR_THT_13x2M_2.54mm (Pin Header, pitch 2.54 mm, THT, Vertical, dual row, 26p)
footprint HDR_SMD_13x2M_2.54mm (Pin Header, pitch 2.54 mm, SMD, Vertical, dual row, 26p)
footprint HDR_SMD_13x2M_2.54mm_RA (Pin Header, pitch 2.54 mm, SMD, Angled, dual row, 26p)
footprint HDR_THT_13x2M_2.54mm_RA (Pin Header, pitch 2.54 mm, THT, Angled, dual row, 26p)
pins: 1, 2, 3, 4, 5, 6, 7, 8, 9, 10, 11, 12, 13, 14, 15, 16, 17, 18, 19, 20, 21, 22, 23, 24, 25, 26

## Con_MPH_14x1_V_THT_2.54
designator J?, comment Inflow: 7152  (hidden comment: 14)
Header, single row, 14 pin; Rating: Rating?; Validation: NT; Value: 14; Package: Package?; Type: Type?
footprint HDR_THT_14M_2.54mm (Pin Header, pitch 2.54 mm, THT, Vertical, single row, 14p)
footprint HDR_SMD_14M_2.54mm_ (Pin Header, pitch 2.54 mm, SMD, Vertical, single row, 14p)
footprint HDR_SMD_14M_2.54mm (Pin Header, pitch 2.54 mm, SMD, Vertical, single row, 14p)
footprint HDR_THT_14M_2.54mm_RA (Pin Header, pitch 2.54 mm, THT, Angled, single row, 14p)
pins: 1, 2, 3, 4, 5, 6, 7, 8, 9, 10, 11, 12, 13, 14

## Con_MPH_14x2_V_THT_2.54
designator J?, comment Inflow: 7152  (hidden comment: 14x2)
Header, dual row, 28 pin; Rating: Rating?; Validation: NT; Value: 14x2; Package: Package?; Type: Type?
footprint HDR_THT_14x2M_2.54mm (Pin Header, pitch 2.54 mm, THT, Vertical, dual row, 28p)
footprint HDR_THT_14x2M_2mm (2.00 mm THT Dual Pin Header, 28p)
footprint HDR_THT_14x2M_1.27mm (Pin Header, pitch 1.27 mm, THT, Vertical, dual row, 28p)
footprint HDR_SMD_14x2M_1.27mm (Pin Header, pitch 1.27 mm, SMD, Vertical, dual row, 28p)
pins: 1, 2, 3, 4, 5, 6, 7, 8, 9, 10, 11, 12, 13, 14, 15, 16, 17, 18, 19, 20, 21, 22, 23, 24, 25, 26, 27, 28

## Con_MPH_15x1_V_THT_2.54
designator J?, comment Inflow: 7152  (hidden comment: 15)
Header, single row, 15 pin; Rating: Rating?; Validation: NT; Value: 15; Package: Package?; Type: Type?
footprint HDR_THT_15M_2.54mm (Pin Header, pitch 2.54 mm, THT, Vertical, single row, 15p)
footprint HDR_THT_15F_2.54mm_RA (Socket Header, Pitch 2.54 mm, THT, Angled, single row, 15p)
pins: 1, 2, 3, 4, 5, 6, 7, 8, 9, 10, 11, 12, 13, 14, 15

## Con_MPH_15x2_V_THT_2.54
designator J?, comment Inflow: 7152  (hidden comment: 15x2)
Header, dual row, 30 pin; Rating: Rating?; Validation: NT; Value: 15x2; Package: Package?; Type: Type?
footprint HDR_THT_15x2M_2.54mm (Pin Header, pitch 2.54 mm, THT, Vertical, dual row, 30p)
footprint HDR_SMD_15x2M_2.54mm (Pin Header, pitch 2.54 mm, SMD, Vertical, dual row, 30p)
pins: 1, 2, 3, 4, 5, 6, 7, 8, 9, 10, 11, 12, 13, 14, 15, 16, 17, 18, 19, 20, 21, 22, 23, 24, 25, 26, 27, 28, 29, 30

## Con_MPH_16x1_V_THT_2.54
designator J?, comment Inflow: 7152  (hidden comment: 16)
Header, single row, 16 pin; Rating: Rating?; Validation: NT; Value: 16; Package: Package?; Type: Type?
footprint HDR_THT_16M_2.54mm (Pin Header, pitch 2.54 mm, THT, Vertical, single row, 16p)
footprint HDR_SMD_16M_2.54mm_ (Pin Header, pitch 2.54 mm, SMD, Vertical, single row, 16p)
footprint HDR_SMD_16M_2.54mm (Pin Header, pitch 2.54 mm, SMD, Vertical, single row, 16p)
footprint HDR_THT_16M_2.54mm_RA (Pin Header, pitch 2.54 mm, THT, Angled, single row, 16p)
pins: 1, 2, 3, 4, 5, 6, 7, 8, 9, 10, 11, 12, 13, 14, 15, 16

## Con_MPH_16x2_V_THT_2.54
designator J?, comment Inflow: 7152  (hidden comment: 16x2)
Header, dual row, 32 pin; Rating: Rating?; Validation: NT; Value: 16x2; Package: Package?; Type: Type?
footprint HDR_THT_16x2M_2.54mm (Pin Header, pitch 2.54 mm, THT, Vertical, dual row, 32p)
footprint HDR_THT_16x2M_2mm (2.00 mm THT Dual Pin Header, 32p)
footprint HDR_SMD_16x2M_2.54mm (Pin Header, pitch 2.54 mm, SMD, Vertical, dual row, 32p)
footprint HDR_SMD_16x2M_2mm (Pin Header, pitch 2.00 mm, SMD, Vertical, dual row, 32p)
footprint HDR_THT_16x2M_2.54mm_RA (Pin Header, pitch 2.54 mm, THT, Angled, dual row, 32p)
pins: 1, 2, 3, 4, 5, 6, 7, 8, 9, 10, 11, 12, 13, 14, 15, 16, 17, 18, 19, 20, 21, 22, 23, 24, 25, 26, 27, 28, 29, 30, 31, 32

## Con_MPH_17x2_V_THT_2.54
designator J?, comment Inflow: 7152  (hidden comment: 17)
Header, dual row, 34 pin; Rating: Rating?; Validation: NT; Value: 17; Package: Package?; Type: Type?
footprint HDR_THT_17x2M_2.54mm (Pin Header, pitch 2.54 mm, THT, Vertical, dual row, 34p)
footprint HDR_SMD_17x2M_2.54mm (Pin Header, pitch 2.54 mm, SMD, Vertical, dual row, 34p)
footprint HDR_THT_17x2M_2.54mm_RA (Pin Header, pitch 2.54 mm, THT, Angled, dual row, 34p)
pins: 1, 2, 3, 4, 5, 6, 7, 8, 9, 10, 11, 12, 13, 14, 15, 16, 17, 18, 19, 20, 21, 22, 23, 24, 25, 26, 27, 28, 29, 30, 31, 32, 33, 34

## Con_MPH_18x1_V_THT_2.54
designator J?, comment Inflow: 7152  (hidden comment: 18)
Header, single row, 18 pin; Rating: Rating?; Validation: NT; Value: 18; Package: Package?; Type: Type?
footprint HDR_THT_18M_2.54mm (Pin Header, pitch 2.54 mm, THT, Vertical, single row, 18p)
footprint HDR_THT_18M_2.54mm_RA (Pin Header, pitch 2.54 mm, THT, Angled, single row, 18p)
pins: 1, 2, 3, 4, 5, 6, 7, 8, 9, 10, 11, 12, 13, 14, 15, 16, 17, 18

## Con_MPH_18x2_V_THT_2.54
designator J?, comment Inflow: 7152  (hidden comment: 18x2)
Header, dual row, 36 pin; Rating: Rating?; Validation: NT; Value: 18x2; Package: Package?; Type: Type?
footprint HDR_THT_18x2M_2.54mm (Pin Header, pitch 2.54 mm, THT, Vertical, dual row, 36p)
footprint HDR_SMD_18x2M_2.54mm (Pin Header, pitch 2.54 mm, SMD, Vertical, dual row, 36p)
footprint HDR_THT_18x2M_2.54mm_RA (Pin Header, pitch 2.54 mm, THT, Angled, dual row, 36p)
pins: 1, 2, 3, 4, 5, 6, 7, 8, 9, 10, 11, 12, 13, 14, 15, 16, 17, 18, 19, 20, 21, 22, 23, 24, 25, 26, 27, 28, 29, 30, 31, 32, 33, 34, 35, 36

## Con_MPH_20x1_V_THT_2.54
designator J?, comment Inflow: 7152  (hidden comment: 20)
Header, single row, 20 pin; Rating: Rating?; Validation: NT; Value: 20; Package: Package?; Type: Type?
footprint HDR_THT_20M_2.54mm (Pin Header, pitch 2.54 mm, THT, Vertical, single row, 20p)
footprint HDR_THT_20M_2mm (Pin Header, pitch 2.00 mm, THT, Vertical, single row, 20p)
pins: 1, 2, 3, 4, 5, 6, 7, 8, 9, 10, 11, 12, 13, 14, 15, 16, 17, 18, 19, 20

## Con_MPH_20x2_V_THT_2.54
designator J?, comment Inflow: 7152  (hidden comment: 20x2)
Header, dual row, 40 pin; Rating: Rating?; Validation: NT; Value: 20x2; Package: Package?; Type: Type?
footprint HDR_THT_20x2M_2.54mm (Pin Header, pitch 2.54 mm, THT, Vertical, dual row, 40p)
footprint HDR_THT_20x2M_2mm (2.00 mm THT Dual Pin Header, 40p)
footprint HDR_SMD_20x2M_1.27mm (Pin Header, pitch 1.27 mm, SMD, Vertical, dual row, 40p)
footprint HDR_THT_20x2M_2.54mm_RA (Pin Header, pitch 2.54 mm, THT, Angled, dual row, 40p)
pins: 1, 2, 3, 4, 5, 6, 7, 8, 9, 10, 11, 12, 13, 14, 15, 16, 17, 18, 19, 20, 21, 22, 23, 24, 25, 26, 27, 28, 29, 30, 31, 32, 33, 34, 35, 36, 37, 38, 39, 40

## Con_MPH_22x1_V_THT_2.54
designator J?, comment Inflow: 7152  (hidden comment: 22)
Header, single row, 22 pin; Rating: Rating?; Validation: NT; Value: 22; Package: Package?; Type: Type?
footprint HDR_THT_22M_2.54mm (Pin Header, pitch 2.54 mm, THT, Vertical, single row, 22p)
footprint HDR_THT_22M_2.54mm_RA (Pin Header, pitch 2.54 mm, THT, Angled, single row, 22p)
pins: 1, 2, 3, 4, 5, 6, 7, 8, 9, 10, 11, 12, 13, 14, 15, 16, 17, 18, 19, 20, 21, 22

## Con_MPH_22x2_V_THT_2.54
designator J?, comment Inflow: 7152  (hidden comment: 22x2)
Header, dual row, 44 pin; Rating: Rating?; Validation: NT; Value: 22x2; Package: Package?; Type: Type?
footprint HDR_THT_22x2M_2.54mm (Pin Header, pitch 2.54 mm, THT, Vertical, dual row, 44p)
footprint HDR_THT_22x2M_2mm (2.00 mm THT Dual Pin Header, 44p)
footprint HDR_SMD_22x2M_2mm (Pin Header, pitch 2.00 mm, SMD, Vertical, dual row, 44p)
footprint HDR_SMD_22x2M_1.27mm (Pin Header, pitch 1.27 mm, SMD, Vertical, dual row, 44p)
pins: 1, 2, 3, 4, 5, 6, 7, 8, 9, 10, 11, 12, 13, 14, 15, 16, 17, 18, 19, 20, 21, 22, 23, 24, 25, 26, 27, 28, 29, 30, 31, 32, 33, 34, 35, 36, 37, 38, 39, 40, 41, 42, 43, 44

## Con_MPH_24x1_V_THT_2.54
designator J?, comment Inflow: 7152  (hidden comment: 24)
Header, single row, 24 pin; Rating: Rating?; Validation: NT; Value: 24; Package: Package?; Type: Type?
footprint HDR_THT_24M_2.54mm (Pin Header, pitch 2.54 mm, THT, Vertical, single row, 24p)
footprint HDR_SMD_24M_2.54mm_ (Pin Header, pitch 2.54 mm, SMD, Vertical, single row, 24p)
footprint HDR_SMD_24M_2.54mm (Pin Header, pitch 2.54 mm, SMD, Vertical, single row, 24p)
pins: 1, 2, 3, 4, 5, 6, 7, 8, 9, 10, 11, 12, 13, 14, 15, 16, 17, 18, 19, 20, 21, 22, 23, 24

## Con_MPH_25x2_V_SMD_1.27
designator J?, comment Inflow: 7152  (hidden comment: 25x2)
Header, dual row, 50 pin; Rating: Rating?; Validation: NT; Value: 25x2; Package: Package?; Type: Type?
footprint HDR_SMD_25x2M_1.27mm (Pin Header, pitch 1.27 mm, SMD, Vertical, dual row, 50p)
pins: 1, 2, 3, 4, 5, 6, 7, 8, 9, 10, 11, 12, 13, 14, 15, 16, 17, 18, 19, 20, 21, 22, 23, 24, 25, 26, 27, 28, 29, 30, 31, 32, 33, 34, 35, 36, 37, 38, 39, 40, 41, 42, 43, 44, 45, 46, 47, 48, 49, 50

## Con_MPH_32x1_V_THT_2.54
designator J?, comment Inflow: 7152  (hidden comment: 32)
Header, single row, 32 pin; Rating: Rating?; Validation: NT; Value: 32; Package: Package?; Type: Type?
footprint HDR_THT_32M_2.54mm (Pin Header, pitch 2.54 mm, THT, Vertical, single row, 32p)
footprint HDR_THT_32M_2mm (Pin Header, pitch 2.00 mm, THT, Vertical, single row, 32p)
footprint HDR_SMD_32M_2.54mm_ (Pin Header, pitch 2.54 mm, SMD, Vertical, single row, 32p)
footprint HDR_SMD_32M_2.54mm (Pin Header, pitch 2.54 mm, SMD, Vertical, single row, 32p)
footprint HDR_THT_32M_2.54mm_RA (Pin Header, pitch 2.54 mm, THT, Angled, single row, 32p)
pins: 1, 2, 3, 4, 5, 6, 7, 8, 9, 10, 11, 12, 13, 14, 15, 16, 17, 18, 19, 20, 21, 22, 23, 24, 25, 26, 27, 28, 29, 30, 31, 32

## Con_MPH_32x2_V_THT_2.54
designator J?, comment Inflow: 7152  (hidden comment: 32x2)
Header, dual row, 64 pin; Rating: Rating?; Validation: NT; Value: 32x2; Package: Package?; Type: Type?
footprint HDR_THT_32x2M_2.54mm (Pin Header, pitch 2.54 mm, THT, Vertical, dual row, 64p)
footprint HDR_THT_32x2M_2.54mm_RA (Pin Header, pitch 2.54 mm, THT, Angled, dual row, 64p)
pins: 1, 2, 3, 4, 5, 6, 7, 8, 9, 10, 11, 12, 13, 14, 15, 16, 17, 18, 19, 20, 21, 22, 23, 24, 25, 26, 27, 28, 29, 30, 31, 32, 33, 34, 35, 36, 37, 38, 39, 40, 41, 42, 43, 44, 45, 46, 47, 48, 49, 50, 51, 52, 53, 54, 55, 56, 57, 58, 59, 60, 61, 62, 63, 64

## Con_MPH_34x1_V_SMD_2.54
designator J?, comment Inflow: 7152  (hidden comment: 34)
Header, single row, 34 pin; Rating: Rating?; Validation: NT; Value: 34; Package: Package?; Type: Type?
footprint HDR_SMD_34M_2.54mm (Pin Header, pitch 2.54 mm, SMD, Vertical, single row, 34p)
footprint HDR_THT_34M_2.54mm_RA (Pin Header, pitch 2.54 mm, THT, Angled, single row, 34p)
pins: 1, 2, 3, 4, 5, 6, 7, 8, 9, 10, 11, 12, 13, 14, 15, 16, 17, 18, 19, 20, 21, 22, 23, 24, 25, 26, 27, 28, 29, 30, 31, 32, 33, 34

## Con_MPH_36x1_V_THT_2.54
designator J?, comment Inflow: 7152  (hidden comment: 36)
Header, single row, 36 pin; Rating: Rating?; Validation: NT; Value: 36; Package: Package?; Type: Type?
footprint HDR_THT_36M_2.54mm (Pin Header, pitch 2.54 mm, THT, Vertical, single row, 36p)
footprint HDR_SMD_36M_2.54mm (Pin Header, pitch 2.54 mm, SMD, Vertical, single row, 36p)
footprint HDR_THT_36M_2.54mm_RA (Pin Header, pitch 2.54 mm, THT, Angled, single row, 36p)
pins: 1, 2, 3, 4, 5, 6, 7, 8, 9, 10, 11, 12, 13, 14, 15, 16, 17, 18, 19, 20, 21, 22, 23, 24, 25, 26, 27, 28, 29, 30, 31, 32, 33, 34, 35, 36

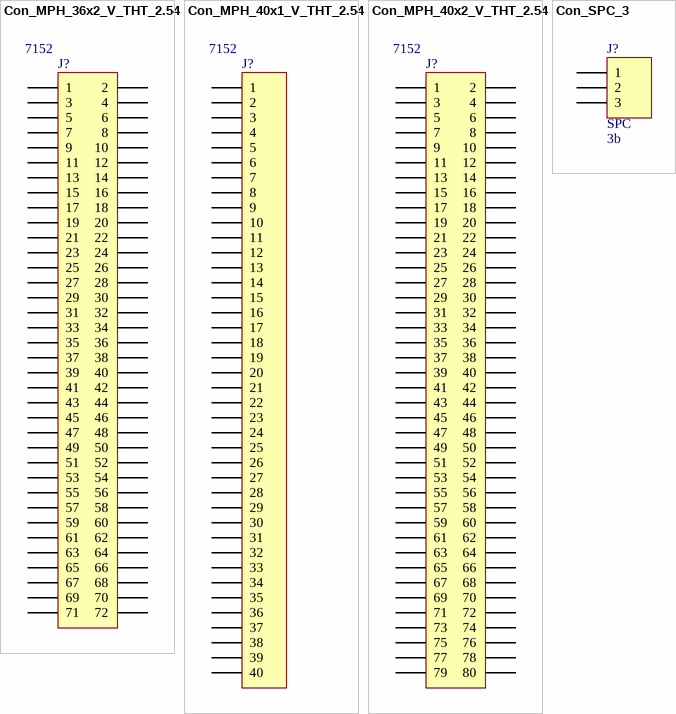
[diagram p5: symbols Con_MPH_36x2_V_THT_2.54 to Con_SPC_3]

## Con_MPH_36x2_V_THT_2.54
designator J?, comment Inflow: 7152  (hidden comment: 36x2)
Header, dual row, 72 pin; Rating: Rating?; Validation: NT; Value: 36x2; Package: Package?; Type: Type?
footprint HDR_THT_36x2M_2.54mm (Pin Header, pitch 2.54 mm, THT, Vertical, dual row, 72p)
footprint HDR_THT_36x2M_2.54mm_RA (Pin Header, pitch 2.54 mm, THT, Angled, dual row, 72p)
pins: 1, 2, 3, 4, 5, 6, 7, 8, 9, 10, 11, 12, 13, 14, 15, 16, 17, 18, 19, 20, 21, 22, 23, 24, 25, 26, 27, 28, 29, 30, 31, 32, 33, 34, 35, 36, 37, 38, 39, 40, 41, 42, 43, 44, 45, 46, 47, 48, 49, 50, 51, 52, 53, 54, 55, 56, 57, 58, 59, 60, 61, 62, 63, 64, 65, 66, 67, 68, 69, 70, 71, 72

## Con_MPH_40x1_V_THT_2.54
designator J?, comment Inflow: 7152  (hidden comment: 40)
Header, single row, 40 pin; Rating: Rating?; Validation: NT; Value: 40; Package: Package?; Type: Type?
footprint HDR_THT_40M_2.54mm (Pin Header, pitch 2.54 mm, THT, Vertical, single row, 40p)
footprint HDR_THT_40M_2.54mm_RA (Pin Header, pitch 2.54 mm, THT, Angled, single row, 40p)
pins: 1, 2, 3, 4, 5, 6, 7, 8, 9, 10, 11, 12, 13, 14, 15, 16, 17, 18, 19, 20, 21, 22, 23, 24, 25, 26, 27, 28, 29, 30, 31, 32, 33, 34, 35, 36, 37, 38, 39, 40

## Con_MPH_40x2_V_THT_2.54
designator J?, comment Inflow: 7152  (hidden comment: 40x2)
Header, dual row, 80 pin; Rating: Rating?; Validation: NT; Value: 40x2; Package: Package?; Type: Type?
footprint HDR_THT_40x2M_2.54mm (Pin Header, pitch 2.54 mm, THT, Vertical, dual row, 80p)
pins: 1, 2, 3, 4, 5, 6, 7, 8, 9, 10, 11, 12, 13, 14, 15, 16, 17, 18, 19, 20, 21, 22, 23, 24, 25, 26, 27, 28, 29, 30, 31, 32, 33, 34, 35, 36, 37, 38, 39, 40, 41, 42, 43, 44, 45, 46, 47, 48, 49, 50, 51, 52, 53, 54, 55, 56, 57, 58, 59, 60, 61, 62, 63, 64, 65, 66, 67, 68, 69, 70, 71, 72, 73, 74, 75, 76, 77, 78, 79, 80

## Con_SPC_3
designator J?, comment Type: SPC  (hidden comment: 3b)
SMD Pad Connector; Rating: Rating?; Validation: NT; Package: SMD; Inflow: -; Value: 3b
footprint SPC_3 (SMD Pad connector, pitch 2.54 mm,)
pins: 1, 2, 3